# Altium integrated library BM06B-GHS-TBTLFSNN.IntLib: 3 symbols
Pins are listed as number, name and electrical type; pins without a type are passive.

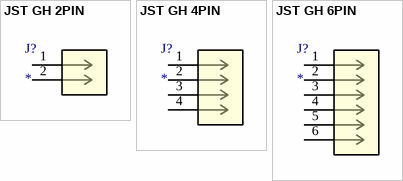
[diagram p0: symbols JST GH 2PIN to JST GH 6PIN]

## JST GH 2PIN
designator J?
No Description Available; Mfr_Name: JST; RefDes: RefDes; Type: Type
footprint JST GH 2PIN
pins: 1, 2

## JST GH 4PIN
designator J?
No Description Available; Mfr_Name: JST; RefDes: RefDes; Type: Type
footprint JST GH 4PIN
pins: 1, 2, 3, 4

## JST GH 6PIN
designator J?
No Description Available; Mfr_Name: JST; RefDes: RefDes; Type: Type
footprint JST GH 6PIN
pins: 1, 2, 3, 4, 5, 6